# Altium integrated library Timer.IntLib: 4 symbols
Pins are listed as number, name and electrical type; pins without a type are passive.

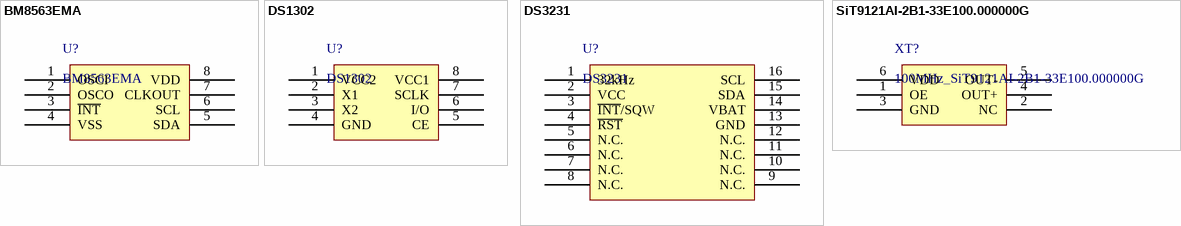
[diagram p0: symbols BM8563EMA to SiT9121AI-2B1-33E100.000000G]

## BM8563EMA
designator U?
低功耗CMOS实时时钟/日历芯片
footprint MSOP-8_L3.0-W3.0-P0.65-LS4.9-BL
pins: 1 OSCI, 2 OSCO, 3 ~{INT}, 4 VSS, 5 SDA, 6 SCL, 7 CLKOUT, 8 VDD

## DS1302
designator U?
SPI Real time clock IC
footprint SO-8_3.9x4.9mm_P1.27mm (SOIC, 8-Leads, Body 4.9x3.90mm, Pitch 1.27mm, IPC Medium Density)
pins: 1 VCC2, 2 X1, 3 X2, 4 GND, 5 CE, 6 I/O, 7 SCLK, 8 VCC1

## DS3231
designator U?
Extremely Accurate I2C-Integrated RTC/TCXO/Crystal
footprint SO-16_7.62mm_P1.27mm (SOIC, 16-Leads, Body 10.30x7.50mm, Pitch 1.27mm, IPC Medium Density)
pins: 1 32kHz, 2 VCC, 3 ~{INT}/SQW, 4 ~{RST}, 5 N.C., 6 N.C., 7 N.C., 8 N.C., 9 N.C., 10 N.C., 11 N.C., 12 N.C., 13 GND, 14 VBAT, 15 SDA, 16 SCL

## SiT9121AI-2B1-33E100.000000G
designator XT?, comment 100MHz_SiT9121AI-2B1-33E100.000000G
100MHz High Performance Differential Oscillator
footprint SMD3225-6P (SON, 6-Leads, Body 3.20x2.50mm, Pitch 1.10mm, IPC Medium Density)
pins: 1 OE, 2 NC, 3 GND, 4 OUT+, 5 OUT-, 6 VDD